# Altium footprint library SMD,7.3x4.3mm D4.PcbLib: 1 footprints
Each footprint in its own frame and in the unit in brackets; x right, y up, seen from the top. Pads: shape width x height; smd on the part's side, far side on the other; paste and mask are expansions set on the pad; w line width, h text height; cw(c..) or ccw(c..) is an arc to the next point about the centre after c.
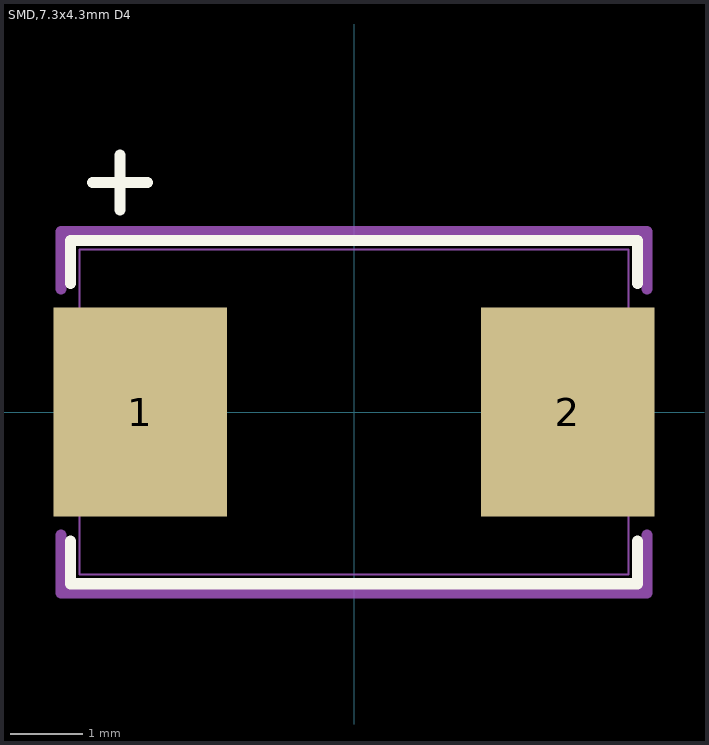
[diagram p0: the footprint, top view; thin cyan lines are the x and y axes]

## SMD,7.3x4.3mm D4 [mil]
pads (2):
  rect 94.5x114 smd paste+0 mask+0: 1(-116.31,0) 2(116.31,0)
Top Overlay:
  lines w6: -154.5,-70.1 -154.5,-93.5 154.5,-93.5 154.5,-70.1 ; -154.5,70.1 -154.5,93.5 154.5,93.5 154.5,70.1 ; -142.5,125 -112.5,125 ; -127.5,110 -127.5,140
Mechanical 13:
  lines w1: -142.5,125 -112.5,125 ; -127.5,110 -127.5,140 ; -149.5,-88.5 -149.5,88.5 149.5,88.5 149.5,-88.5 -149.5,-88.5
Mechanical 15:
  lines w6: -159.5,-67 -159.5,-98.5 159.5,-98.5 159.5,-67 ; -159.5,67 -159.5,98.5 159.5,98.5 159.5,67
3D body "PCAP_TPE_D4_PAN.step": height 157.01, standoff 0, extent -149.49,-88.58 149.49,88.58